# Altium footprint library 12-XFDFN.PcbLib: 1 footprints
Each footprint in its own frame and in the unit in brackets; x right, y up, seen from the top. Pads: shape width x height; smd on the part's side, far side on the other; paste and mask are expansions set on the pad; w line width, h text height; cw(c..) or ccw(c..) is an arc to the next point about the centre after c.
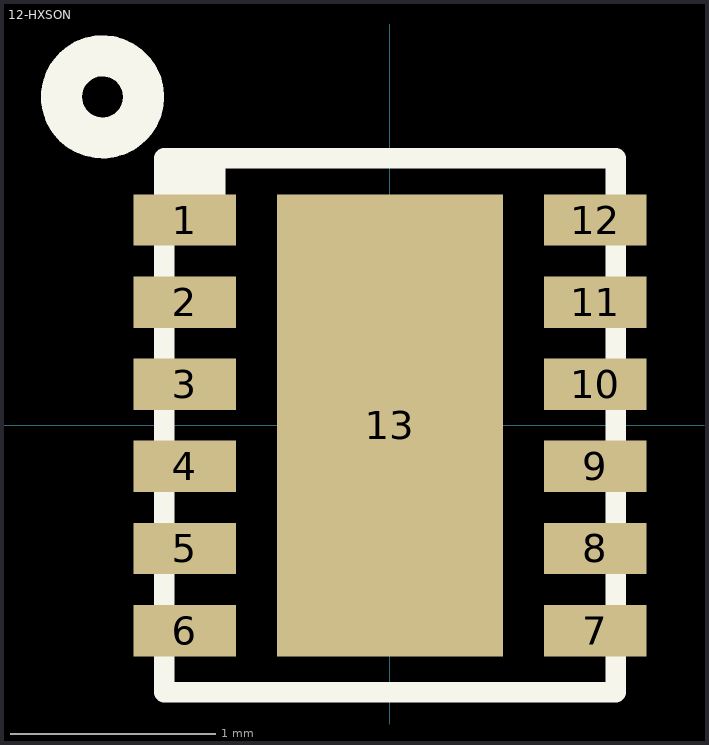
[diagram p0: the footprint, top view; thin cyan lines are the x and y axes]

## 12-HXSON [mm]
pads (13):
  rect 0.5x0.25 smd: 1(-1,1) 2(-1,0.6) 3(-1,0.2) 4(-1,-0.2) 5(-1,-0.6) 6(-1,-1) 7(1,-1) 8(1,-0.6) 9(1,-0.2) 10(1,0.2) 11(1,0.6) 12(1,1)
  rect 1.1x2.25 smd paste-10: 13(0,0)
Top Overlay:
  circle w0.2: c-1.4,1.6 r0.2
  rectangle: -1.1,1 -0.8,1.3
  lines w0.1: -1.1,-1.3 1.1,-1.3 1.1,1.3 -1.1,1.3 -1.1,-1.3
Top Paste:
  rectangle: -0.4,-0.8 0.4,0.4
  rectangle: -0.4,-1 0.4,-0.2
  rectangle: -0.4,0.2 0.4,1
3D body: height 0.5, standoff 0, extent -1.1,-1.3 1.1,1.3